# Altium schematic symbol library lab2.SchLib: 12 symbols
Pins are listed as number, name and electrical type; pins without a type are passive.

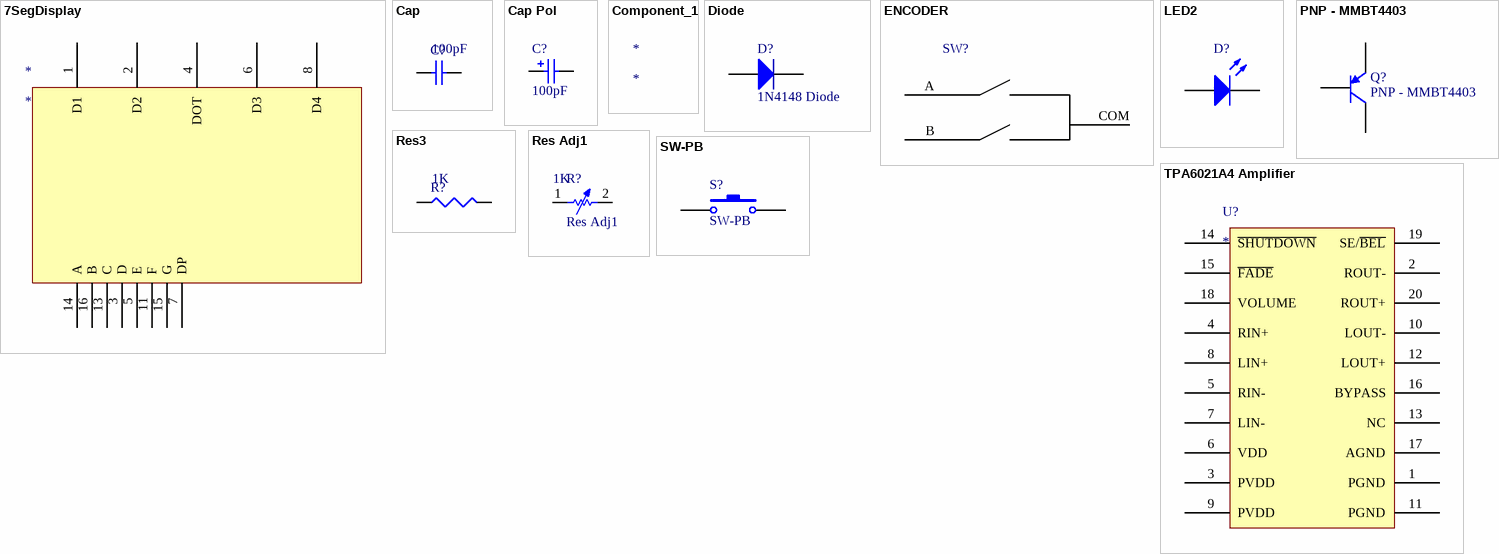
[diagram p0: symbols 7SegDisplay to TPA6021A4 Amplifier]

## 7SegDisplay
designator *
pins: 1 D1, 2 D2, 3 D, 4 DOT, 5 E, 6 D3, 7 DP, 8 D4, 11 F, 13 C, 14 A, 15 G, 16 B

## Cap
designator C?, comment value 100pF  (hidden comment: 0805 style, by default)
Capacitor; Published: 8-Jun-2000; LatestRevisionDate: 17-Jul-2002; LatestRevisionNote: Re-released for DXP Platform.; PackageReference: RAD-0.3; Publisher: Altium Limited; PackageDescription: Radial Cap, Thru-Hole; 2 Leads; 0.3 in Pin Spacing
simulation model CAP (Capacitor)
signal-integrity model Cap
footprint C0805 (Chip Capacitor, Body 2.0x1.3mm, IPC High Density)
pins: 1, 2

## Cap Pol
designator C?, comment 100pF
Polarized Capacitor (Radial); Value: 100pF
pins: 1, 2
1 alternate drawing of the same symbol

## Component_1
designator *

## Diode
designator D?, comment 1N4148 Diode
Diode
footprint S01575 Diode (Chip Resistor, Body 1.6x0.8mm, IPC High Density)
pins: 1 K, 3 A

## ENCODER
designator SW?  (value not drawn)
pins: A, B, COM

## LED2
designator D?
Typical RED, GREEN, YELLOW, AMBER GaAs LED; Published: 8-Jun-2000; LatestRevisionDate: 17-Jul-2002; LatestRevisionNote: Re-released for DXP Platform.; PackageVersion: Feb-2002; PackageReference: 3.2X1.6X1.1; Publisher: Altium Limited; PackageDescription: SM LED; 2 Flat Leads
footprint basic_led
pins: 1 A, 2 K

## PNP - MMBT4403
designator Q?
PNP Bipolar Transistor
footprint TO-92A - BJT (TO, Flat Index; 3 In-Line, Axial Leads; Body Dia. 4.5mm; Leads 0.51 x 0.48 mm (max))
pins: 1 C, 2 B, 3 E

## Res3
designator R?, comment 1K
Resistor; Published: 8-Jun-2000; LatestRevisionDate: 29-May-2009; LatestRevisionNote: IPC-7351 Footprint Added.; PackageReference: J1-0603; Publisher: Altium Limited; PackageDescription: Chip Resistor; Value: 1K
footprint J1-0603 (Chip Resistor, Body 1.6x0.8mm, IPC High Density)
pins: 1, 2

## Res Adj1
designator R?  value 1K
Variable Resistor
footprint LOG POT
pins: 1, 2

## SW-PB
designator S?
Switch
footprint SW-PB
pins: 1, 2

## TPA6021A4 Amplifier
designator U?
Audio Amplifier
pins: 1 PGND, 2 ROUT-, 3 PVDD, 4 RIN+, 5 RIN-, 6 VDD, 7 LIN-, 8 LIN+, 9 PVDD, 10 LOUT-, 11 PGND, 12 LOUT+, 13 NC, 14 ~{SHUTDOWN}, 15 ~{FADE}, 16 BYPASS, 17 AGND, 18 VOLUME, 19 SE/~{BEL}, 20 ROUT+